# Altium footprint library Connector_PCBEdge.PcbLib: 101 footprints (part 2 of 7)
Each footprint in its own frame and in the unit in brackets; x right, y up, seen from the top. Pads: shape width x height; smd on the part's side, far side on the other; paste and mask are expansions set on the pad; w line width, h text height; cw(c..) or ccw(c..) is an arc to the next point about the centre after c.
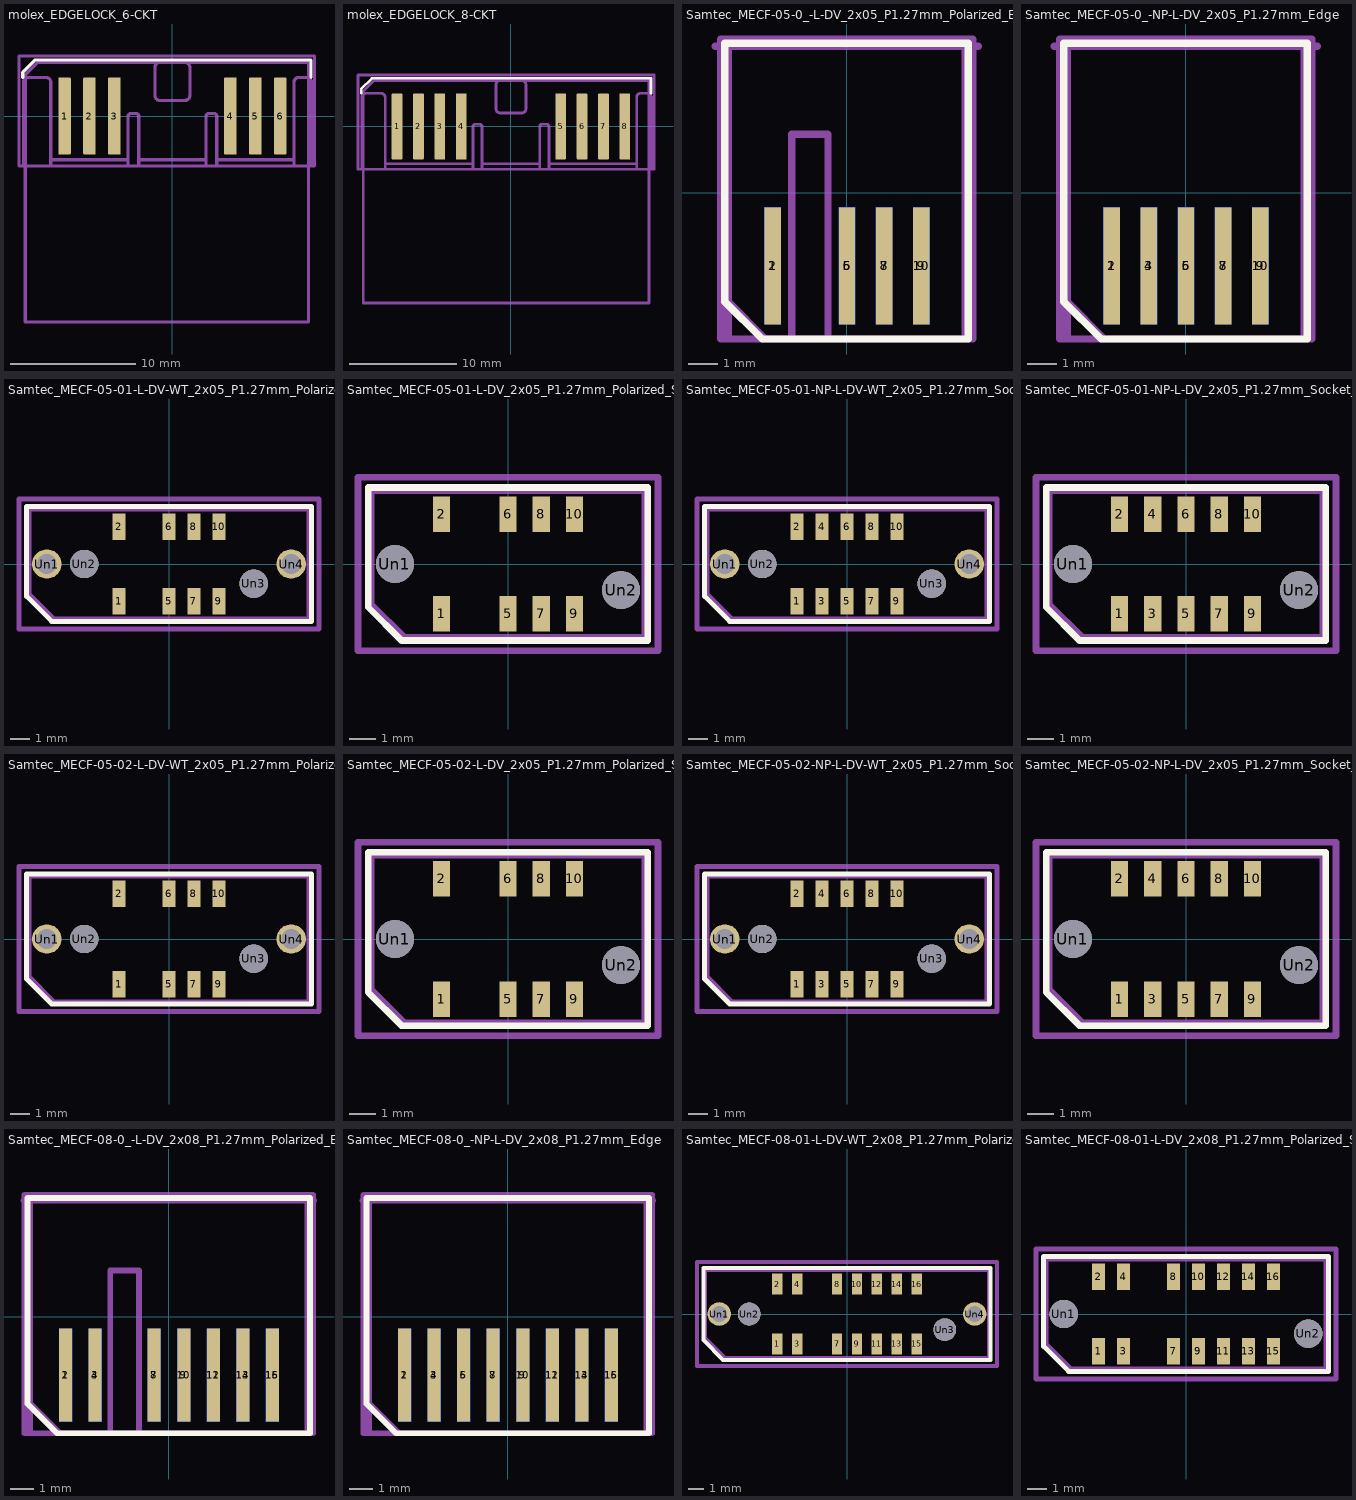
[diagram p1: the footprints below, top view; thin cyan lines are the x and y axes]

## molex_EDGELOCK_6-CKT [mm]
pads (6):
  rrect20% 1x6.2 smd: 1(-8.65,0) 2(-6.65,0) 3(-4.65,0) 4(4.65,0) 5(6.65,0) 6(8.65,0)
F.SilkS:
  lines w0.254: -12,3.1 -12,3.5 -11,4.5 11.1,4.5 11.1,3.1
Top Assembly:
  lines w0.254: -11.8,-16.5 -11.8,3.3 -10.8,4.3 10.9,4.3 10.9,-16.5 -11.8,-16.5
  text "'.Designator'" at -2.828,-0.583 h0.7
Top Courtyard:
  lines w0.254: -12.3,-4 -12.3,4.8 11.4,4.8 11.4,-4 -12.3,-4
Top Designator:
  text ".Designator" at -8.068,-6.358 h1.52
Board Shape:
  lines w0.254: -11.95,-4 -11.95,2.7 cw(c-11.55,2.7) -11.55,3.1 -10.15,3.1 cw(c-10.15,2.7) -9.75,2.7 -9.75,-4 -3.55,-4 -3.55,0 cw(c-3.35,0) -3.35,0.2 -2.9,0.2 cw(c-2.9,0) -2.7,0 -2.7,-4 2.7,-4 2.7,0 cw(c2.9,0) 2.9,0.2 3.35,0.2 cw(c3.35,0) 3.55,0 3.55,-4 9.75,-4 9.75,2.7 cw(c10.15,2.7) 10.15,3.1 10.75,3.1 cw(c10.75,2.7) 11.15,2.7 11.15,-4 ; -1.4,1.65 ccw(c-1,1.65) -1,1.25 1,1.25 ccw(c1,1.65) 1.4,1.65 1.4,3.9 ccw(c1,3.9) 1,4.3 -1,4.3 ccw(c-1,3.9) -1.4,3.9 -1.4,1.65
Dwgs.User:
  lines w0.254: -9.75,-3.5 -3.55,-3.5 ; -2.7,-3.5 2.7,-3.5 ; 3.55,-3.5 9.75,-3.5
Cmts.User:
  text "Chamfer 30 degree 0.5 mm" at -7.042,-5.317 h0.7

## molex_EDGELOCK_8-CKT [mm]
pads (8):
  rrect20% 1x6.2 smd: 1(-10.65,0) 2(-8.65,0) 3(-6.65,0) 4(-4.65,0) 5(4.65,0) 6(6.65,0) 7(8.65,0) 8(10.65,0)
F.SilkS:
  lines w0.254: -14,3.1 -14,3.5 -13,4.5 13.1,4.5 13.1,3.1
Top Assembly:
  lines w0.254: -13.8,-16.5 -13.8,3.3 -12.8,4.3 12.9,4.3 12.9,-16.5 -13.8,-16.5
  text "'.Designator'" at -2.828,-0.583 h0.7
Top Courtyard:
  lines w0.254: -14.3,-4 -14.3,4.8 13.4,4.8 13.4,-4 -14.3,-4
Top Designator:
  text ".Designator" at -8.068,-6.358 h1.52
Board Shape:
  lines w0.254: -13.95,-4 -13.95,2.7 cw(c-13.55,2.7) -13.55,3.1 -12.15,3.1 cw(c-12.15,2.7) -11.75,2.7 -11.75,-4 -3.55,-4 -3.55,0 cw(c-3.35,0) -3.35,0.2 -2.9,0.2 cw(c-2.9,0) -2.7,0 -2.7,-4 2.7,-4 2.7,0 cw(c2.9,0) 2.9,0.2 3.35,0.2 cw(c3.35,0) 3.55,0 3.55,-4 11.75,-4 11.75,2.7 cw(c12.15,2.7) 12.15,3.1 12.75,3.1 cw(c12.75,2.7) 13.15,2.7 13.15,-4 ; -1.4,1.65 ccw(c-1,1.65) -1,1.25 1,1.25 ccw(c1,1.65) 1.4,1.65 1.4,3.9 ccw(c1,3.9) 1,4.3 -1,4.3 ccw(c-1,3.9) -1.4,3.9 -1.4,1.65
Dwgs.User:
  lines w0.254: -11.75,-3.5 -3.55,-3.5 ; -2.7,-3.5 2.7,-3.5 ; 3.55,-3.5 11.75,-3.5
Cmts.User:
  text "Chamfer 30 degree 0.5 mm" at -7.042,-5.317 h0.7

## Samtec_MECF-05-0_-L-DV_2x05_P1.27mm_Polarized_Edge [mm]
pads (8):
  rect 0.56x4 smd: 1(-2.53,-2.5) 5(0.01,-2.5) 7(1.28,-2.5) 9(2.55,-2.5)
  rect 0.56x4 smd far side: 2(-2.53,-2.5) 6(0.01,-2.5) 8(1.28,-2.5) 10(2.55,-2.5)
F.SilkS:
  lines w0.254: -4.16,-3.73 -4.16,5.11 4.16,5.11 4.16,-5 -2.89,-5 -4.16,-3.73
B.SilkS:
  lines w0.254: -4.16,-5 -4.16,5.11 4.16,5.11 4.16,-5 -4.16,-5
Top Assembly:
  lines w0.254: -4.05,-3.73 -4.05,5 4.05,5 4.05,-5 -2.78,-5 -4.05,-3.73
  text "'.Designator'" at -4.047,1.7 h1
Bottom Assembly:
  lines w0.254: -4.05,-5 -4.05,5 4.05,5 4.05,-5 -4.05,-5
Top Courtyard:
  lines w0.254: -4.3,-5 -4.3,5.25 4.3,5.25 4.3,-5 -4.3,-5
Bottom Courtyard:
  lines w0.254: -4.3,-5 -4.3,5.25 4.3,5.25 4.3,-5 -4.3,-5
Top Designator:
  text ".Designator" at -7.618,-0.383 h1.52
Board Shape:
  lines w0.254: -4.5,5 -4.05,5 -4.05,-5 -1.88,-5 -1.88,2 -0.64,2 -0.64,-5 4.05,-5 4.05,5 4.5,5

## Samtec_MECF-05-0_-NP-L-DV_2x05_P1.27mm_Edge [mm]
pads (10):
  rect 0.56x4 smd: 1(-2.53,-2.5) 3(-1.26,-2.5) 5(0.01,-2.5) 7(1.28,-2.5) 9(2.55,-2.5)
  rect 0.56x4 smd far side: 2(-2.53,-2.5) 4(-1.26,-2.5) 6(0.01,-2.5) 8(1.28,-2.5) 10(2.55,-2.5)
F.SilkS:
  lines w0.254: -4.16,-3.73 -2.89,-5 4.16,-5 4.16,5.11 -4.16,5.11 -4.16,-3.73
B.SilkS:
  lines w0.254: -4.16,-5 4.16,-5 4.16,5.11 -4.16,5.11 -4.16,-5
Top Assembly:
  lines w0.254: -4.05,-3.73 -2.78,-5 4.05,-5 4.05,5 -4.05,5 -4.05,-3.73
  text "'.Designator'" at -4.047,1.7 h1
Bottom Assembly:
  lines w0.254: -4.05,-5 4.05,-5 4.05,5 -4.05,5 -4.05,-5
Top Courtyard:
  lines w0.254: -4.3,-5 4.3,-5 4.3,5.25 -4.3,5.25 -4.3,-5
Bottom Courtyard:
  lines w0.254: -4.3,-5 4.3,-5 4.3,5.25 -4.3,5.25 -4.3,-5
Top Designator:
  text ".Designator" at -7.618,-0.383 h1.52
Board Shape:
  lines w0.254: -4.5,5 -4.05,5 -4.05,-5 4.05,-5 4.05,5 4.5,5

## Samtec_MECF-05-01-L-DV-WT_2x05_P1.27mm_Polarized_Socket_Horizontal [mm]
pads (12):
  rect 0.66x1.35 smd: 1(-2.54,-1.905) 2(-2.54,1.905) 5(0,-1.905) 6(0,1.905) 7(1.27,-1.905) 8(1.27,1.905) 9(2.54,-1.905) 10(2.54,1.905)
  round 1.5 hole 1: Un1(-6.225,0) Un4(6.225,0)
  round 1.45 hole 1.45: Un2(-4.32,0) Un3(4.32,-1)
F.SilkS:
  lines w0.254: -7.25,-1.65 -5.98,-2.92 7.25,-2.92 7.25,2.92 -7.25,2.92 -7.25,-1.65
Top Assembly:
  lines w0.254: -7.135,-1.535 -5.865,-2.805 7.135,-2.805 7.135,2.805 -7.135,2.805 -7.135,-1.535
  text "'.Designator'" at -4.047,-0.84 h1
Top Courtyard:
  lines w0.254: -7.64,-3.31 7.64,-3.31 7.64,3.31 -7.64,3.31 -7.64,-3.31
Top Designator:
  text ".Designator" at -7.618,-0.508 h1.52

## Samtec_MECF-05-01-L-DV_2x05_P1.27mm_Polarized_Socket_Horizontal [mm]
pads (10):
  rect 0.66x1.35 smd: 1(-2.54,-1.905) 2(-2.54,1.905) 5(0,-1.905) 6(0,1.905) 7(1.27,-1.905) 8(1.27,1.905) 9(2.54,-1.905) 10(2.54,1.905)
  round 1.45 hole 1.45: Un1(-4.32,0) Un2(4.32,-1)
F.SilkS:
  lines w0.254: -5.34,-1.65 -4.07,-2.92 5.34,-2.92 5.34,2.92 -5.34,2.92 -5.34,-1.65
Top Assembly:
  lines w0.254: -5.23,-1.535 -3.96,-2.805 5.23,-2.805 5.23,2.805 -5.23,2.805 -5.23,-1.535
  text "'.Designator'" at -4.047,-0.84 h1
Top Courtyard:
  lines w0.254: -5.73,-3.31 5.73,-3.31 5.73,3.31 -5.73,3.31 -5.73,-3.31
Top Designator:
  text ".Designator" at -7.618,-0.508 h1.52

## Samtec_MECF-05-01-NP-L-DV-WT_2x05_P1.27mm_Socket_Horizontal [mm]
pads (14):
  rect 0.66x1.35 smd: 1(-2.54,-1.905) 2(-2.54,1.905) 3(-1.27,-1.905) 4(-1.27,1.905) 5(0,-1.905) 6(0,1.905) 7(1.27,-1.905) 8(1.27,1.905) 9(2.54,-1.905) 10(2.54,1.905)
  round 1.5 hole 1: Un1(-6.225,0) Un4(6.225,0)
  round 1.45 hole 1.45: Un2(-4.32,0) Un3(4.32,-1)
F.SilkS:
  lines w0.254: -7.25,-1.65 -5.98,-2.92 7.25,-2.92 7.25,2.92 -7.25,2.92 -7.25,-1.65
Top Assembly:
  lines w0.254: -7.135,-1.535 -5.865,-2.805 7.135,-2.805 7.135,2.805 -7.135,2.805 -7.135,-1.535
  text "'.Designator'" at -4.047,-0.84 h1
Top Courtyard:
  lines w0.254: -7.64,-3.31 7.64,-3.31 7.64,3.31 -7.64,3.31 -7.64,-3.31
Top Designator:
  text ".Designator" at -7.618,-0.508 h1.52

## Samtec_MECF-05-01-NP-L-DV_2x05_P1.27mm_Socket_Horizontal [mm]
pads (12):
  rect 0.66x1.35 smd: 1(-2.54,-1.905) 2(-2.54,1.905) 3(-1.27,-1.905) 4(-1.27,1.905) 5(0,-1.905) 6(0,1.905) 7(1.27,-1.905) 8(1.27,1.905) 9(2.54,-1.905) 10(2.54,1.905)
  round 1.45 hole 1.45: Un1(-4.32,0) Un2(4.32,-1)
F.SilkS:
  lines w0.254: -5.34,-1.65 -4.07,-2.92 5.34,-2.92 5.34,2.92 -5.34,2.92 -5.34,-1.65
Top Assembly:
  lines w0.254: -5.23,-1.535 -3.96,-2.805 5.23,-2.805 5.23,2.805 -5.23,2.805 -5.23,-1.535
  text "'.Designator'" at -4.047,-0.84 h1
Top Courtyard:
  lines w0.254: -5.73,-3.31 5.73,-3.31 5.73,3.31 -5.73,3.31 -5.73,-3.31
Top Designator:
  text ".Designator" at -7.618,-0.508 h1.52

## Samtec_MECF-05-02-L-DV-WT_2x05_P1.27mm_Polarized_Socket_Horizontal [mm]
pads (12):
  rect 0.66x1.35 smd: 1(-2.54,-2.3) 2(-2.54,2.3) 5(0,-2.3) 6(0,2.3) 7(1.27,-2.3) 8(1.27,2.3) 9(2.54,-2.3) 10(2.54,2.3)
  round 1.5 hole 1: Un1(-6.225,0) Un4(6.225,0)
  round 1.45 hole 1.45: Un2(-4.32,0) Un3(4.32,-1)
F.SilkS:
  lines w0.254: -7.25,-2.04 -5.98,-3.31 7.25,-3.31 7.25,3.31 -7.25,3.31 -7.25,-2.04
Top Assembly:
  lines w0.254: -7.135,-1.93 -5.865,-3.2 7.135,-3.2 7.135,3.2 -7.135,3.2 -7.135,-1.93
  text "'.Designator'" at -4.047,-0.84 h1
Top Courtyard:
  lines w0.254: -7.64,-3.7 7.64,-3.7 7.64,3.7 -7.64,3.7 -7.64,-3.7
Top Designator:
  text ".Designator" at -7.618,-0.508 h1.52

## Samtec_MECF-05-02-L-DV_2x05_P1.27mm_Polarized_Socket_Horizontal [mm]
pads (10):
  rect 0.66x1.35 smd: 1(-2.54,-2.3) 2(-2.54,2.3) 5(0,-2.3) 6(0,2.3) 7(1.27,-2.3) 8(1.27,2.3) 9(2.54,-2.3) 10(2.54,2.3)
  round 1.45 hole 1.45: Un1(-4.32,0) Un2(4.32,-1)
F.SilkS:
  lines w0.254: -5.34,-2.04 -4.07,-3.31 5.34,-3.31 5.34,3.31 -5.34,3.31 -5.34,-2.04
Top Assembly:
  lines w0.254: -5.23,-1.93 -3.96,-3.2 5.23,-3.2 5.23,3.2 -5.23,3.2 -5.23,-1.93
  text "'.Designator'" at -4.047,-0.84 h1
Top Courtyard:
  lines w0.254: -5.73,-3.7 5.73,-3.7 5.73,3.7 -5.73,3.7 -5.73,-3.7
Top Designator:
  text ".Designator" at -7.618,-0.508 h1.52

## Samtec_MECF-05-02-NP-L-DV-WT_2x05_P1.27mm_Socket_Horizontal [mm]
pads (14):
  rect 0.66x1.35 smd: 1(-2.54,-2.3) 2(-2.54,2.3) 3(-1.27,-2.3) 4(-1.27,2.3) 5(0,-2.3) 6(0,2.3) 7(1.27,-2.3) 8(1.27,2.3) 9(2.54,-2.3) 10(2.54,2.3)
  round 1.5 hole 1: Un1(-6.225,0) Un4(6.225,0)
  round 1.45 hole 1.45: Un2(-4.32,0) Un3(4.32,-1)
F.SilkS:
  lines w0.254: -7.25,-2.04 -5.98,-3.31 7.25,-3.31 7.25,3.31 -7.25,3.31 -7.25,-2.04
Top Assembly:
  lines w0.254: -7.135,-1.93 -5.865,-3.2 7.135,-3.2 7.135,3.2 -7.135,3.2 -7.135,-1.93
  text "'.Designator'" at -4.047,-0.84 h1
Top Courtyard:
  lines w0.254: -7.64,-3.7 7.64,-3.7 7.64,3.7 -7.64,3.7 -7.64,-3.7
Top Designator:
  text ".Designator" at -7.618,-0.508 h1.52

## Samtec_MECF-05-02-NP-L-DV_2x05_P1.27mm_Socket_Horizontal [mm]
pads (12):
  rect 0.66x1.35 smd: 1(-2.54,-2.3) 2(-2.54,2.3) 3(-1.27,-2.3) 4(-1.27,2.3) 5(0,-2.3) 6(0,2.3) 7(1.27,-2.3) 8(1.27,2.3) 9(2.54,-2.3) 10(2.54,2.3)
  round 1.45 hole 1.45: Un1(-4.32,0) Un2(4.32,-1)
F.SilkS:
  lines w0.254: -5.34,-2.04 -4.07,-3.31 5.34,-3.31 5.34,3.31 -5.34,3.31 -5.34,-2.04
Top Assembly:
  lines w0.254: -5.23,-1.93 -3.96,-3.2 5.23,-3.2 5.23,3.2 -5.23,3.2 -5.23,-1.93
  text "'.Designator'" at -4.047,-0.84 h1
Top Courtyard:
  lines w0.254: -5.73,-3.7 5.73,-3.7 5.73,3.7 -5.73,3.7 -5.73,-3.7
Top Designator:
  text ".Designator" at -7.618,-0.508 h1.52

## Samtec_MECF-08-0_-L-DV_2x08_P1.27mm_Polarized_Edge [mm]
pads (14):
  rect 0.56x4 smd: 1(-4.435,-2.5) 3(-3.165,-2.5) 7(-0.625,-2.5) 9(0.645,-2.5) 11(1.915,-2.5) 13(3.185,-2.5) 15(4.455,-2.5)
  rect 0.56x4 smd far side: 2(-4.435,-2.5) 4(-3.165,-2.5) 8(-0.625,-2.5) 10(0.645,-2.5) 12(1.915,-2.5) 14(3.185,-2.5) 16(4.455,-2.5)
F.SilkS:
  lines w0.254: -6.07,-3.73 -6.07,5.11 6.07,5.11 6.07,-5 -4.8,-5 -6.07,-3.73
B.SilkS:
  lines w0.254: -6.07,-5 -6.07,5.11 6.07,5.11 6.07,-5 -6.07,-5
Top Assembly:
  lines w0.254: -5.955,-3.73 -5.955,5 5.955,5 5.955,-5 -4.685,-5 -5.955,-3.73
  text "'.Designator'" at -4.047,1.7 h1
Bottom Assembly:
  lines w0.254: -5.955,-5 -5.955,5 5.955,5 5.955,-5 -5.955,-5
Top Courtyard:
  lines w0.254: -6.2,-5 -6.2,5.25 6.2,5.25 6.2,-5 -6.2,-5
Bottom Courtyard:
  lines w0.254: -6.2,-5 -6.2,5.25 6.2,5.25 6.2,-5 -6.2,-5
Top Designator:
  text ".Designator" at -7.618,-0.383 h1.52
Board Shape:
  lines w0.254: -6.25,5 -5.955,5 -5.955,-5 -2.515,-5 -2.515,2 -1.275,2 -1.275,-5 5.955,-5 5.955,5 6.25,5

## Samtec_MECF-08-0_-NP-L-DV_2x08_P1.27mm_Edge [mm]
pads (16):
  rect 0.56x4 smd: 1(-4.435,-2.5) 3(-3.165,-2.5) 5(-1.895,-2.5) 7(-0.625,-2.5) 9(0.645,-2.5) 11(1.915,-2.5) 13(3.185,-2.5) 15(4.455,-2.5)
  rect 0.56x4 smd far side: 2(-4.435,-2.5) 4(-3.165,-2.5) 6(-1.895,-2.5) 8(-0.625,-2.5) 10(0.645,-2.5) 12(1.915,-2.5) 14(3.185,-2.5) 16(4.455,-2.5)
F.SilkS:
  lines w0.254: -6.07,-3.73 -6.07,5.11 6.07,5.11 6.07,-5 -4.8,-5 -6.07,-3.73
B.SilkS:
  lines w0.254: -6.07,-5 -6.07,5.11 6.07,5.11 6.07,-5 -6.07,-5
Top Assembly:
  lines w0.254: -5.955,-3.73 -5.955,5 5.955,5 5.955,-5 -4.685,-5 -5.955,-3.73
  text "'.Designator'" at -4.047,1.7 h1
Bottom Assembly:
  lines w0.254: -5.955,-5 -5.955,5 5.955,5 5.955,-5 -5.955,-5
Top Courtyard:
  lines w0.254: -6.2,-5 -6.2,5.25 6.2,5.25 6.2,-5 -6.2,-5
Bottom Courtyard:
  lines w0.254: -6.2,-5 -6.2,5.25 6.2,5.25 6.2,-5 -6.2,-5
Top Designator:
  text ".Designator" at -7.618,-0.383 h1.52
Board Shape:
  lines w0.254: -6.25,5 -5.955,5 -5.955,-5 5.955,-5 5.955,5 6.25,5

## Samtec_MECF-08-01-L-DV-WT_2x08_P1.27mm_Polarized_Socket_Horizontal [mm]
pads (18):
  rect 0.66x1.35 smd: 1(-4.445,-1.905) 2(-4.445,1.905) 3(-3.175,-1.905) 4(-3.175,1.905) 7(-0.635,-1.905) 8(-0.635,1.905) 9(0.635,-1.905) 10(0.635,1.905) 11(1.905,-1.905) 12(1.905,1.905) 13(3.175,-1.905) 14(3.175,1.905) 15(4.445,-1.905) 16(4.445,1.905)
  round 1.5 hole 1: Un1(-8.13,0) Un4(8.13,0)
  round 1.45 hole 1.45: Un2(-6.225,0) Un3(6.225,-1)
F.SilkS:
  lines w0.254: -9.15,-1.65 -7.88,-2.92 9.15,-2.92 9.15,2.92 -9.15,2.92 -9.15,-1.65
Top Assembly:
  lines w0.254: -9.04,-1.535 -7.77,-2.805 9.04,-2.805 9.04,2.805 -9.04,2.805 -9.04,-1.535
  text "'.Designator'" at -4.047,-0.84 h1
Top Courtyard:
  lines w0.254: -9.55,-3.31 9.55,-3.31 9.55,3.31 -9.55,3.31 -9.55,-3.31
Top Designator:
  text ".Designator" at -7.618,-0.508 h1.52

## Samtec_MECF-08-01-L-DV_2x08_P1.27mm_Polarized_Socket_Horizontal [mm]
pads (16):
  rect 0.66x1.35 smd: 1(-4.445,-1.905) 2(-4.445,1.905) 3(-3.175,-1.905) 4(-3.175,1.905) 7(-0.635,-1.905) 8(-0.635,1.905) 9(0.635,-1.905) 10(0.635,1.905) 11(1.905,-1.905) 12(1.905,1.905) 13(3.175,-1.905) 14(3.175,1.905) 15(4.445,-1.905) 16(4.445,1.905)
  round 1.45 hole 1.45: Un1(-6.225,0) Un2(6.225,-1)
F.SilkS:
  lines w0.254: -7.25,-1.65 -5.98,-2.92 7.25,-2.92 7.25,2.92 -7.25,2.92 -7.25,-1.65
Top Assembly:
  lines w0.254: -7.135,-1.535 -5.865,-2.805 7.135,-2.805 7.135,2.805 -7.135,2.805 -7.135,-1.535
  text "'.Designator'" at -4.047,-0.84 h1
Top Courtyard:
  lines w0.254: -7.64,-3.31 7.64,-3.31 7.64,3.31 -7.64,3.31 -7.64,-3.31
Top Designator:
  text ".Designator" at -7.618,-0.508 h1.52